# Altium footprint library Molex_DT.PcbLib: 2 footprints
Each footprint in its own frame and in the unit in brackets; x right, y up, seen from the top. Pads: shape width x height; smd on the part's side, far side on the other; paste and mask are expansions set on the pad; w line width, h text height; cw(c..) or ccw(c..) is an arc to the next point about the centre after c.
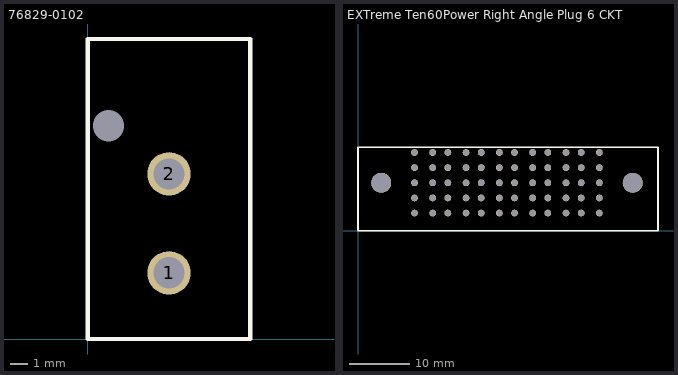
[diagram p0: the footprints below, top view; thin cyan lines are the x and y axes]

## 76829-0102 [mm] "molex 2 circuit connector megafit slim"
pads (3):
  round 2.5 hole 1.8 mask+0.3: 1(4.67,3.81) 2(4.67,9.51)
  round 0 hole 1.8 unplated: ""(1.19,12.28)
Top Overlay:
  lines w0.254: 0,0 0,17.28 9.34,17.28 9.34,0 0,0
3D body "768290102.stp": height 16.95, standoff -1.63, extent 0.501,0.503 8.85,14.537

## EXTreme Ten60Power Right Angle Plug 6 CKT [mm]
pads (62):
  round 1.12 hole 1.02: 1(9.33,2.9) 1(9.33,5.4) 1(9.33,7.9) 1(9.33,10.4) 1(9.33,12.9) 1(12.33,2.9) 1(12.33,5.4) 1(12.33,7.9) 1(12.33,10.4) 1(12.33,12.9) 2(14.83,2.9) 2(14.83,5.4) 2(14.83,7.9) 2(14.83,10.4) 2(14.83,12.9) 2(17.83,2.9) 2(17.83,5.4) 2(17.83,7.9) 2(17.83,10.4) 2(17.83,12.9) 3(20.33,2.9) 3(20.33,5.4) 3(20.33,7.9) 3(20.33,10.4) 3(20.33,12.9) 3(23.33,2.9) 3(23.33,5.4) 3(23.33,7.9) 3(23.33,10.4) 3(23.33,12.9) 4(25.83,2.9) 4(25.83,5.4) 4(25.83,7.9) 4(25.83,10.4) 4(25.83,12.9) 4(28.83,2.9) 4(28.83,5.4) 4(28.83,7.9) 4(28.83,10.4) 4(28.83,12.9) 5(31.33,2.9) 5(31.33,5.4) 5(31.33,7.9) 5(31.33,10.4) 5(31.33,12.9) 5(34.33,2.9) 5(34.33,5.4) 5(34.33,7.9) 5(34.33,10.4) 5(34.33,12.9) 6(36.83,2.9) 6(36.83,5.4) 6(36.83,7.9) 6(36.83,10.4) 6(36.83,12.9) 6(39.83,2.9) 6(39.83,5.4) 6(39.83,7.9) 6(39.83,10.4) 6(39.83,12.9)
  round 3.3 hole 3.2 unplated: ""(3.83,7.9) ""(45.33,7.9)
Top Overlay:
  lines w0.254: 0,0 49.51,0 49.51,13.75 0,13.75 0,0